# Altium integrated library TI Power Management PCMCIA and USB.IntLib: 328 symbols (part 4 of 14)
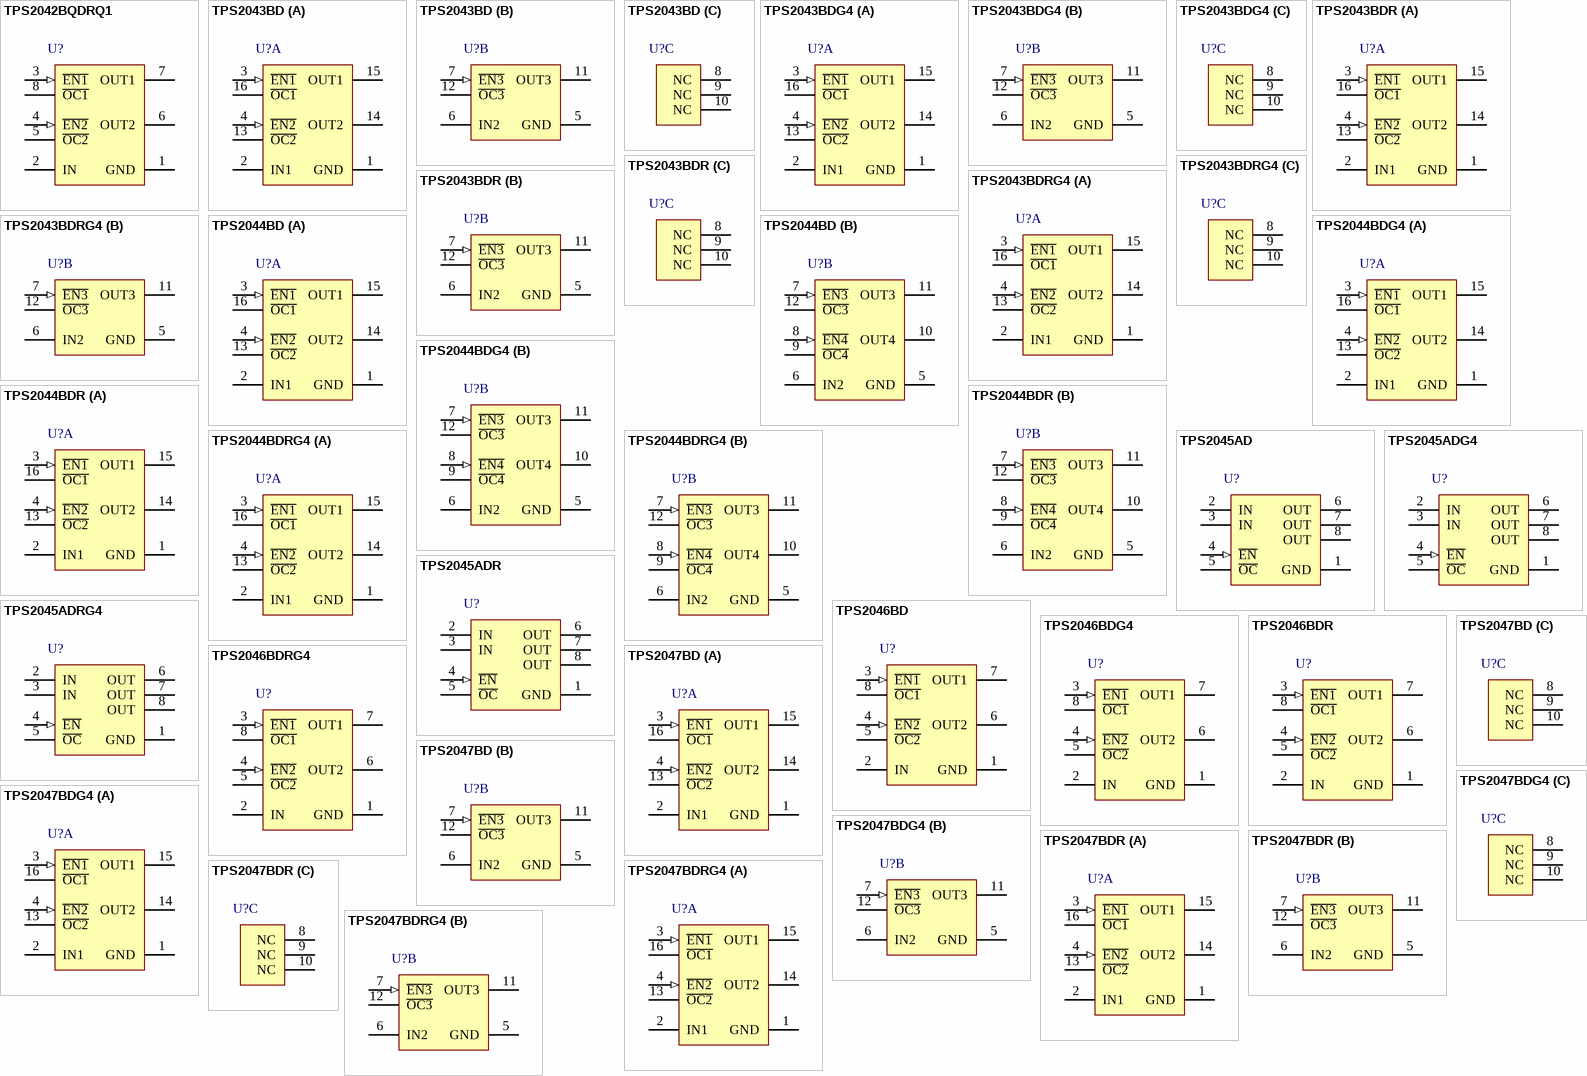
[diagram p13: symbols TPS2042BQDRQ1 to TPS2047BDRG4]

## TPS2044BDR
designator U?
Quad Current-Limited Power Distribution Switch, 1 A Current Limit, -40 to 85 degC, 16-pin SOIC (D), Green (RoHS & no Sb/Br); Manufacturer: Texas Instruments; PartNumber: TPS2044BDR; Continuous Current(Max)(A): 0.5; Current Limit(A): 1; Enable: Active Low; NEMKO: TRUE; Number of Switches: 4; Rating: Catalog; rDS(on) per FET(Typ)(mOhms): 70; Vin(Max)(V): 5.5; Vin(Min)(V): 2.7; DatasheetVersion: SLVS514L; PackageVersion: revM, Jun-2011; PackageReference: D16; PackageDescription: 16-Pin Plastic Small Outline Integrated Circuit, 9.9 x 3.9 mm, Pitch 1.27 mm Pitch; Supplier 1: Digi-Key; Supplier Part Number 1: 296-26909-2-ND; Supplier 2: Digi-Key; Supplier Part Number 2: 296-26909-1-ND; Supplier 3: Digi-Key; Supplier Part Number 3: 296-26909-6-ND; Supplier 4: Newark; Supplier Part Number 4: 90H4834; Supplier 5: Mouser; Supplier Part Number 5: 595-TPS2044BDR; Eco-Plan: Green (RoHS & no Sb/Br); UL Listed: TRUE; Mounting Technology: Surface Mount; Code_JEDEC: MS-012AC; ComponentLink1Description: Datasheet; ComponentLink1URL: http://www.ti.com/general/docs/lit/getliterature.tsp?genericPartNumber=TPS2044B&fileType=pdf
footprint D16_N (SOIC, 16-Leads, Body 9.9x3.9mm, Pitch 1.27mm, IPC Medium Density)
footprint D16_L (SOIC, 16-Leads, Body 9.9x3.9mm, Pitch 1.27mm, IPC High Density)
footprint D16_M (SOIC, 16-Leads, Body 9.9x3.9mm, Pitch 1.27mm, IPC Low Density)
part A pins: 1 GND (power) "Ground", 2 IN1 (power) "Input voltage for OUT1 and OUT2", 3 ~{EN1} (in) "Enable input, logic high turns on power switch IN1-OUT1", 4 ~{EN2} (in) "Enable input, logic high turns on power switch IN1-OUT2", 13 ~{OC2} (oc) "Overcurrent, open-drain output, active low, IN1-OUT2", 14 OUT2 (power) "Power-switch output, IN1-OUT2", 15 OUT1 (power) "Power-switch output, IN1-OUT1", 16 ~{OC1} (oc) "Overcurrent, open-drain output, active low, IN1-OUT1"
part B pins: 5 GND (power) "Ground", 6 IN2 (power) "Input voltage for OUT3", 7 ~{EN3} (in) "Enable input, logic high turns on power switch IN2-OUT3", 8 ~{EN4} (in) "Enable input, logic low turns on power switch IN2-OUT4", 9 ~{OC4} (oc) "Overcurrent, open-drain output, active low, IN2-OUT4", 10 OUT4 (power) "Power-switch output, IN2-OUT4", 11 OUT3 (power) "Power-switch output, IN2-OUT3", 12 ~{OC3} (oc) "Overcurrent, open-drain output, active low, IN2-OUT3"

## TPS2044BDRG4
designator U?
Quad Current-Limited Power Distribution Switch, 1 A Current Limit, -40 to 85 degC, 16-pin SOIC (D), Green (RoHS & no Sb/Br); Manufacturer: Texas Instruments; PartNumber: TPS2044BDRG4; Continuous Current(Max)(A): 0.5; Current Limit(A): 1; Enable: Active Low; NEMKO: TRUE; Number of Switches: 4; Rating: Catalog; rDS(on) per FET(Typ)(mOhms): 70; Vin(Max)(V): 5.5; Vin(Min)(V): 2.7; DatasheetVersion: SLVS514L; PackageVersion: revM, Jun-2011; PackageReference: D16; PackageDescription: 16-Pin Plastic Small Outline Integrated Circuit, 9.9 x 3.9 mm, Pitch 1.27 mm Pitch; Supplier 1: Digi-Key; Supplier Part Number 1: TPS2044BDRG4-ND; Supplier 2: Newark; Supplier Part Number 2: 54K1539; Supplier 3: Mouser; Supplier Part Number 3: 595-TPS2044BDRG4; Eco-Plan: Green (RoHS & no Sb/Br); UL Listed: TRUE; Mounting Technology: Surface Mount; Code_JEDEC: MS-012AC; ComponentLink1Description: Datasheet; ComponentLink1URL: http://www.ti.com/general/docs/lit/getliterature.tsp?genericPartNumber=TPS2044B&fileType=pdf
footprint D16_N (SOIC, 16-Leads, Body 9.9x3.9mm, Pitch 1.27mm, IPC Medium Density)
footprint D16_L (SOIC, 16-Leads, Body 9.9x3.9mm, Pitch 1.27mm, IPC High Density)
footprint D16_M (SOIC, 16-Leads, Body 9.9x3.9mm, Pitch 1.27mm, IPC Low Density)
part A pins: 1 GND (power) "Ground", 2 IN1 (power) "Input voltage for OUT1 and OUT2", 3 ~{EN1} (in) "Enable input, logic high turns on power switch IN1-OUT1", 4 ~{EN2} (in) "Enable input, logic high turns on power switch IN1-OUT2", 13 ~{OC2} (oc) "Overcurrent, open-drain output, active low, IN1-OUT2", 14 OUT2 (power) "Power-switch output, IN1-OUT2", 15 OUT1 (power) "Power-switch output, IN1-OUT1", 16 ~{OC1} (oc) "Overcurrent, open-drain output, active low, IN1-OUT1"
part B pins: 5 GND (power) "Ground", 6 IN2 (power) "Input voltage for OUT3", 7 ~{EN3} (in) "Enable input, logic high turns on power switch IN2-OUT3", 8 ~{EN4} (in) "Enable input, logic low turns on power switch IN2-OUT4", 9 ~{OC4} (oc) "Overcurrent, open-drain output, active low, IN2-OUT4", 10 OUT4 (power) "Power-switch output, IN2-OUT4", 11 OUT3 (power) "Power-switch output, IN2-OUT3", 12 ~{OC3} (oc) "Overcurrent, open-drain output, active low, IN2-OUT3"

## TPS2045AD
designator U?
0.345 A, 2.7 to 5.5 V Single Hi-Side MOSFET, Fault Report, Act-Low Enable, 0.5 A Current Limit, 0 to 85 degC, 8-pin SOIC (D), Green (RoHS & no Sb/Br); Manufacturer: Texas Instruments; PartNumber: TPS2045AD; Continuous Current(Max)(A): 0.25; Current Limit(A): 0.5; Enable: Active Low; NEMKO: TRUE; Number of Switches: 1; Rating: Catalog; rDS(on) per FET(Typ)(mOhms): 80; Vin(Max)(V): 5.5; Vin(Min)(V): 2.7; DatasheetVersion: SLVS251C; PackageVersion: revM, Jun-2011; PackageReference: D8; PackageDescription: 8-Pin Plastic Small Outline Integrated Circuit, 4.9 x 3.9 mm, Pitch 1.27 mm Pitch; Supplier 1: Digi-Key; Supplier Part Number 1: 296-3400-5-ND; Supplier 2: Newark; Supplier Part Number 2: 76C9982; Supplier 3: Mouser; Supplier Part Number 3: 595-TPS2045AD; Eco-Plan: Green (RoHS & no Sb/Br); UL Listed: TRUE; Mounting Technology: Surface Mount; Code_JEDEC: MS-012AA; ComponentLink1Description: Datasheet; ComponentLink1URL: http://www.ti.com/general/docs/lit/getliterature.tsp?genericPartNumber=TPS2045A&fileType=pdf
footprint D8_N (SOIC, 8-Leads, Body 4.9x3.9mm, Pitch 1.27mm, IPC Medium Density)
footprint D8_L (SOIC, 8-Leads, Body 4.9x3.9mm, Pitch 1.27mm, IPC High Density)
footprint D8_M (SOIC, 8-Leads, Body 4.9x3.9mm, Pitch 1.27mm, IPC Low Density)
pins: 1 GND (power) "Ground", 2 IN (power) "Input voltage", 3 IN (power) "Input voltage", 4 ~{EN} (in) "Enable input. Logic low turns on power switch.", 5 ~{OC} (oc) "Overcurrent. Open drain output active low", 6 OUT (power) "Power-switch output", 7 OUT (power) "Power-switch output", 8 OUT (power) "Power-switch output"

## TPS2045ADG4
designator U?
0.345 A, 2.7 to 5.5 V Single Hi-Side MOSFET, Fault Report, Act-Low Enable, 0.5 A Current Limit, 0 to 85 degC, 8-pin SOIC (D), Green (RoHS & no Sb/Br); Manufacturer: Texas Instruments; PartNumber: TPS2045ADG4; Continuous Current(Max)(A): 0.25; Current Limit(A): 0.5; Enable: Active Low; NEMKO: TRUE; Number of Switches: 1; Rating: Catalog; rDS(on) per FET(Typ)(mOhms): 80; Vin(Max)(V): 5.5; Vin(Min)(V): 2.7; DatasheetVersion: SLVS251C; PackageVersion: revM, Jun-2011; PackageReference: D8; PackageDescription: 8-Pin Plastic Small Outline Integrated Circuit, 4.9 x 3.9 mm, Pitch 1.27 mm Pitch; Supplier 1: Digi-Key; Supplier Part Number 1: TPS2045ADG4-ND; Supplier 2: Newark; Supplier Part Number 2: 04M0245; Supplier 3: Mouser; Supplier Part Number 3: 595-TPS2045ADG4; Eco-Plan: Green (RoHS & no Sb/Br); UL Listed: TRUE; Mounting Technology: Surface Mount; Code_JEDEC: MS-012AA; ComponentLink1Description: Datasheet; ComponentLink1URL: http://www.ti.com/general/docs/lit/getliterature.tsp?genericPartNumber=TPS2045A&fileType=pdf
footprint D8_N (SOIC, 8-Leads, Body 4.9x3.9mm, Pitch 1.27mm, IPC Medium Density)
footprint D8_L (SOIC, 8-Leads, Body 4.9x3.9mm, Pitch 1.27mm, IPC High Density)
footprint D8_M (SOIC, 8-Leads, Body 4.9x3.9mm, Pitch 1.27mm, IPC Low Density)
pins: 1 GND (power) "Ground", 2 IN (power) "Input voltage", 3 IN (power) "Input voltage", 4 ~{EN} (in) "Enable input. Logic low turns on power switch.", 5 ~{OC} (oc) "Overcurrent. Open drain output active low", 6 OUT (power) "Power-switch output", 7 OUT (power) "Power-switch output", 8 OUT (power) "Power-switch output"

## TPS2045ADR
designator U?
0.345 A, 2.7 to 5.5 V Single Hi-Side MOSFET, Fault Report, Act-Low Enable, 0.5 A Current Limit, 0 to 85 degC, 8-pin SOIC (D), Green (RoHS & no Sb/Br); Manufacturer: Texas Instruments; PartNumber: TPS2045ADR; Continuous Current(Max)(A): 0.25; Current Limit(A): 0.5; Enable: Active Low; NEMKO: TRUE; Number of Switches: 1; Rating: Catalog; rDS(on) per FET(Typ)(mOhms): 80; Vin(Max)(V): 5.5; Vin(Min)(V): 2.7; DatasheetVersion: SLVS251C; PackageVersion: revM, Jun-2011; PackageReference: D8; PackageDescription: 8-Pin Plastic Small Outline Integrated Circuit, 4.9 x 3.9 mm, Pitch 1.27 mm Pitch; Supplier 1: Digi-Key; Supplier Part Number 1: TPS2045ADR-ND; Supplier 2: Newark; Supplier Part Number 2: 76C9983; Supplier 3: Mouser; Supplier Part Number 3: 595-TPS2045ADR; Eco-Plan: Green (RoHS & no Sb/Br); UL Listed: TRUE; Mounting Technology: Surface Mount; Code_JEDEC: MS-012AA; ComponentLink1Description: Datasheet; ComponentLink1URL: http://www.ti.com/general/docs/lit/getliterature.tsp?genericPartNumber=TPS2045A&fileType=pdf
footprint D8_N (SOIC, 8-Leads, Body 4.9x3.9mm, Pitch 1.27mm, IPC Medium Density)
footprint D8_L (SOIC, 8-Leads, Body 4.9x3.9mm, Pitch 1.27mm, IPC High Density)
footprint D8_M (SOIC, 8-Leads, Body 4.9x3.9mm, Pitch 1.27mm, IPC Low Density)
pins: 1 GND (power) "Ground", 2 IN (power) "Input voltage", 3 IN (power) "Input voltage", 4 ~{EN} (in) "Enable input. Logic low turns on power switch.", 5 ~{OC} (oc) "Overcurrent. Open drain output active low", 6 OUT (power) "Power-switch output", 7 OUT (power) "Power-switch output", 8 OUT (power) "Power-switch output"

## TPS2045ADRG4
designator U?
0.345 A, 2.7 to 5.5 V Single Hi-Side MOSFET, Fault Report, Act-Low Enable, 0.5 A Current Limit, 0 to 85 degC, 8-pin SOIC (D), Green (RoHS & no Sb/Br); Manufacturer: Texas Instruments; PartNumber: TPS2045ADRG4; Continuous Current(Max)(A): 0.25; Current Limit(A): 0.5; Enable: Active Low; NEMKO: TRUE; Number of Switches: 1; Rating: Catalog; rDS(on) per FET(Typ)(mOhms): 80; Vin(Max)(V): 5.5; Vin(Min)(V): 2.7; DatasheetVersion: SLVS251C; PackageVersion: revM, Jun-2011; PackageReference: D8; PackageDescription: 8-Pin Plastic Small Outline Integrated Circuit, 4.9 x 3.9 mm, Pitch 1.27 mm Pitch; Supplier 1: Digi-Key; Supplier Part Number 1: TPS2045ADRG4-ND; Supplier 2: Newark; Supplier Part Number 2: 71J8064; Supplier 3: Mouser; Supplier Part Number 3: 595-TPS2045ADRG4; Eco-Plan: Green (RoHS & no Sb/Br); UL Listed: TRUE; Mounting Technology: Surface Mount; Code_JEDEC: MS-012AA; ComponentLink1Description: Datasheet; ComponentLink1URL: http://www.ti.com/general/docs/lit/getliterature.tsp?genericPartNumber=TPS2045A&fileType=pdf
footprint D8_N (SOIC, 8-Leads, Body 4.9x3.9mm, Pitch 1.27mm, IPC Medium Density)
footprint D8_L (SOIC, 8-Leads, Body 4.9x3.9mm, Pitch 1.27mm, IPC High Density)
footprint D8_M (SOIC, 8-Leads, Body 4.9x3.9mm, Pitch 1.27mm, IPC Low Density)
pins: 1 GND (power) "Ground", 2 IN (power) "Input voltage", 3 IN (power) "Input voltage", 4 ~{EN} (in) "Enable input. Logic low turns on power switch.", 5 ~{OC} (oc) "Overcurrent. Open drain output active low", 6 OUT (power) "Power-switch output", 7 OUT (power) "Power-switch output", 8 OUT (power) "Power-switch output"

## TPS2046BD
designator U?
Current-Limited Power-Distribution Switch, 0.5 A Current Limit, -40 to 85 degC, 8-pin SOIC (D), Green (RoHS & no Sb/Br); Manufacturer: Texas Instruments; PartNumber: TPS2046BD; Continuous Current(Max)(A): 0.25; Current Limit(A): 0.5; Enable: Active Low; NEMKO: TRUE; Number of Switches: 2; Rating: Catalog; rDS(on) per FET(Typ)(mOhms): 70; Vin(Max)(V): 5.5; Vin(Min)(V): 2.7; DatasheetVersion: SLVS532C; PackageVersion: revM, Jun-2011; PackageReference: D8; PackageDescription: 8-Pin Plastic Small Outline Integrated Circuit, 4.9 x 3.9 mm, Pitch 1.27 mm Pitch; Supplier 1: Digi-Key; Supplier Part Number 1: 296-34584-5-ND; Supplier 2: Newark; Supplier Part Number 2: 21J9181; Supplier 3: Mouser; Supplier Part Number 3: 595-TPS2046BD; Eco-Plan: Green (RoHS & no Sb/Br); UL Listed: TRUE; Mounting Technology: Surface Mount; Code_JEDEC: MS-012AA; ComponentLink1Description: Datasheet; ComponentLink1URL: http://www.ti.com/general/docs/lit/getliterature.tsp?genericPartNumber=TPS2046B&fileType=pdf
footprint D8_N (SOIC, 8-Leads, Body 4.9x3.9mm, Pitch 1.27mm, IPC Medium Density)
footprint D8_L (SOIC, 8-Leads, Body 4.9x3.9mm, Pitch 1.27mm, IPC High Density)
footprint D8_M (SOIC, 8-Leads, Body 4.9x3.9mm, Pitch 1.27mm, IPC Low Density)
pins: 1 GND (power) "Ground", 2 IN (power) "Input voltage", 3 ~{EN1} (in) "Enable input, logic low turns on power switch IN-OUT1", 4 ~{EN2} (in) "Enable input, logic low turns on power switch IN-OUT2", 5 ~{OC2} (oc) "Overcurrent, open-drain output, active low, IN-OUT2", 6 OUT2 (power) "Power-switch output, IN-OUT2", 7 OUT1 (power) "Power-switch output, IN-OUT1", 8 ~{OC1} (oc) "Overcurrent, open-drain output, active low, IN-OUT1"

## TPS2046BDG4
designator U?
Current-Limited Power-Distribution Switch, 0.5 A Current Limit, -40 to 85 degC, 8-pin SOIC (D), Green (RoHS & no Sb/Br); Manufacturer: Texas Instruments; PartNumber: TPS2046BDG4; Continuous Current(Max)(A): 0.25; Current Limit(A): 0.5; Enable: Active Low; NEMKO: TRUE; Number of Switches: 2; Rating: Catalog; rDS(on) per FET(Typ)(mOhms): 70; Vin(Max)(V): 5.5; Vin(Min)(V): 2.7; DatasheetVersion: SLVS532C; PackageVersion: revM, Jun-2011; PackageReference: D8; PackageDescription: 8-Pin Plastic Small Outline Integrated Circuit, 4.9 x 3.9 mm, Pitch 1.27 mm Pitch; Supplier 1: Digi-Key; Supplier Part Number 1: TPS2046BDG4-ND; Supplier 2: Newark; Supplier Part Number 2: 34M0137; Supplier 3: Mouser; Supplier Part Number 3: 595-TPS2046BDG4; Eco-Plan: Green (RoHS & no Sb/Br); UL Listed: TRUE; Mounting Technology: Surface Mount; Code_JEDEC: MS-012AA; ComponentLink1Description: Datasheet; ComponentLink1URL: http://www.ti.com/general/docs/lit/getliterature.tsp?genericPartNumber=TPS2046B&fileType=pdf
footprint D8_N (SOIC, 8-Leads, Body 4.9x3.9mm, Pitch 1.27mm, IPC Medium Density)
footprint D8_L (SOIC, 8-Leads, Body 4.9x3.9mm, Pitch 1.27mm, IPC High Density)
footprint D8_M (SOIC, 8-Leads, Body 4.9x3.9mm, Pitch 1.27mm, IPC Low Density)
pins: 1 GND (power) "Ground", 2 IN (power) "Input voltage", 3 ~{EN1} (in) "Enable input, logic low turns on power switch IN-OUT1", 4 ~{EN2} (in) "Enable input, logic low turns on power switch IN-OUT2", 5 ~{OC2} (oc) "Overcurrent, open-drain output, active low, IN-OUT2", 6 OUT2 (power) "Power-switch output, IN-OUT2", 7 OUT1 (power) "Power-switch output, IN-OUT1", 8 ~{OC1} (oc) "Overcurrent, open-drain output, active low, IN-OUT1"

## TPS2046BDR
designator U?
Current-Limited Power-Distribution Switch, 0.5 A Current Limit, -40 to 85 degC, 8-pin SOIC (D), Green (RoHS & no Sb/Br); Manufacturer: Texas Instruments; PartNumber: TPS2046BDR; Continuous Current(Max)(A): 0.25; Current Limit(A): 0.5; Enable: Active Low; NEMKO: TRUE; Number of Switches: 2; Rating: Catalog; rDS(on) per FET(Typ)(mOhms): 70; Vin(Max)(V): 5.5; Vin(Min)(V): 2.7; DatasheetVersion: SLVS532C; PackageVersion: revM, Jun-2011; PackageReference: D8; PackageDescription: 8-Pin Plastic Small Outline Integrated Circuit, 4.9 x 3.9 mm, Pitch 1.27 mm Pitch; Supplier 1: Digi-Key; Supplier Part Number 1: 296-17246-2-ND; Supplier 2: Digi-Key; Supplier Part Number 2: 296-17246-1-ND; Supplier 3: Digi-Key; Supplier Part Number 3: 296-17246-6-ND; Supplier 4: Newark; Supplier Part Number 4: 21J9182; Supplier 5: Mouser; Supplier Part Number 5: 595-TPS2046BDR; Eco-Plan: Green (RoHS & no Sb/Br); UL Listed: TRUE; Mounting Technology: Surface Mount; Code_JEDEC: MS-012AA; ComponentLink1Description: Datasheet; ComponentLink1URL: http://www.ti.com/general/docs/lit/getliterature.tsp?genericPartNumber=TPS2046B&fileType=pdf
footprint D8_N (SOIC, 8-Leads, Body 4.9x3.9mm, Pitch 1.27mm, IPC Medium Density)
footprint D8_L (SOIC, 8-Leads, Body 4.9x3.9mm, Pitch 1.27mm, IPC High Density)
footprint D8_M (SOIC, 8-Leads, Body 4.9x3.9mm, Pitch 1.27mm, IPC Low Density)
pins: 1 GND (power) "Ground", 2 IN (power) "Input voltage", 3 ~{EN1} (in) "Enable input, logic low turns on power switch IN-OUT1", 4 ~{EN2} (in) "Enable input, logic low turns on power switch IN-OUT2", 5 ~{OC2} (oc) "Overcurrent, open-drain output, active low, IN-OUT2", 6 OUT2 (power) "Power-switch output, IN-OUT2", 7 OUT1 (power) "Power-switch output, IN-OUT1", 8 ~{OC1} (oc) "Overcurrent, open-drain output, active low, IN-OUT1"

## TPS2046BDRG4
designator U?
Current-Limited Power-Distribution Switch, 0.5 A Current Limit, -40 to 85 degC, 8-pin SOIC (D), Green (RoHS & no Sb/Br); Manufacturer: Texas Instruments; PartNumber: TPS2046BDRG4; Continuous Current(Max)(A): 0.25; Current Limit(A): 0.5; Enable: Active Low; NEMKO: TRUE; Number of Switches: 2; Rating: Catalog; rDS(on) per FET(Typ)(mOhms): 70; Vin(Max)(V): 5.5; Vin(Min)(V): 2.7; DatasheetVersion: SLVS532C; PackageVersion: revM, Jun-2011; PackageReference: D8; PackageDescription: 8-Pin Plastic Small Outline Integrated Circuit, 4.9 x 3.9 mm, Pitch 1.27 mm Pitch; Supplier 1: Digi-Key; Supplier Part Number 1: TPS2046BDRG4-ND; Supplier 2: Newark; Supplier Part Number 2: 54K1541; Supplier 3: Mouser; Supplier Part Number 3: 595-TPS2046BDRG4; Eco-Plan: Green (RoHS & no Sb/Br); UL Listed: TRUE; Mounting Technology: Surface Mount; Code_JEDEC: MS-012AA; ComponentLink1Description: Datasheet; ComponentLink1URL: http://www.ti.com/general/docs/lit/getliterature.tsp?genericPartNumber=TPS2046B&fileType=pdf
footprint D8_N (SOIC, 8-Leads, Body 4.9x3.9mm, Pitch 1.27mm, IPC Medium Density)
footprint D8_L (SOIC, 8-Leads, Body 4.9x3.9mm, Pitch 1.27mm, IPC High Density)
footprint D8_M (SOIC, 8-Leads, Body 4.9x3.9mm, Pitch 1.27mm, IPC Low Density)
pins: 1 GND (power) "Ground", 2 IN (power) "Input voltage", 3 ~{EN1} (in) "Enable input, logic low turns on power switch IN-OUT1", 4 ~{EN2} (in) "Enable input, logic low turns on power switch IN-OUT2", 5 ~{OC2} (oc) "Overcurrent, open-drain output, active low, IN-OUT2", 6 OUT2 (power) "Power-switch output, IN-OUT2", 7 OUT1 (power) "Power-switch output, IN-OUT1", 8 ~{OC1} (oc) "Overcurrent, open-drain output, active low, IN-OUT1"

## TPS2047BD
designator U?
Current-Limited Power-Distribution Switch, 0.5 A Current Limit, -40 to 85 degC, 16-pin SOIC (D), Green (RoHS & no Sb/Br); Manufacturer: Texas Instruments; PartNumber: TPS2047BD; Continuous Current(Max)(A): 0.25; Current Limit(A): 0.5; Enable: Active Low; NEMKO: TRUE; Number of Switches: 3; Rating: Catalog; rDS(on) per FET(Typ)(mOhms): 70; Vin(Max)(V): 5.5; Vin(Min)(V): 2.7; DatasheetVersion: SLVS532C; PackageVersion: revM, Jun-2011; PackageReference: D16; PackageDescription: 16-Pin Plastic Small Outline Integrated Circuit, 9.9 x 3.9 mm, Pitch 1.27 mm Pitch; Supplier 1: Digi-Key; Supplier Part Number 1: 296-17403-5-ND; Supplier 2: Newark; Supplier Part Number 2: 44J2492; Supplier 3: Mouser; Supplier Part Number 3: 595-TPS2047BD; Eco-Plan: Green (RoHS & no Sb/Br); UL Listed: TRUE; Mounting Technology: Surface Mount; Code_JEDEC: MS-012AC; ComponentLink1Description: Datasheet; ComponentLink1URL: http://www.ti.com/general/docs/lit/getliterature.tsp?genericPartNumber=TPS2047B&fileType=pdf
footprint D16_N (SOIC, 16-Leads, Body 9.9x3.9mm, Pitch 1.27mm, IPC Medium Density)
footprint D16_L (SOIC, 16-Leads, Body 9.9x3.9mm, Pitch 1.27mm, IPC High Density)
footprint D16_M (SOIC, 16-Leads, Body 9.9x3.9mm, Pitch 1.27mm, IPC Low Density)
part A pins: 1 GND (power) "Ground", 2 IN1 (power) "Input voltage for OUT1 and OUT2", 3 ~{EN1} (in) "Enable input, logic low turns on power switch IN1-OUT1", 4 ~{EN2} (in) "Enable input, logic low turns on power switch IN1-OUT2", 13 ~{OC2} (oc) "Overcurrent, open-drain output, active low, IN1-OUT2", 14 OUT2 (power) "Power-switch output, IN1-OUT2", 15 OUT1 (power) "Power-switch output, IN1-OUT1", 16 ~{OC1} (oc) "Overcurrent, open-drain output, active low, IN1-OUT1"
part B pins: 5 GND (power) "Ground", 6 IN2 (power) "Input voltage for OUT3", 7 ~{EN3} (in) "Enable input, logic low turns on power switch IN2-OUT3", 11 OUT3 (power) "Power-switch output, IN2-OUT3", 12 ~{OC3} (oc) "Overcurrent, open-drain output, active low, IN2-OUT3"
part C pins: 8 NC "No connection", 9 NC "No connection", 10 NC "No connection"

## TPS2047BDG4
designator U?
Current-Limited Power-Distribution Switch, 0.5 A Current Limit, -40 to 85 degC, 16-pin SOIC (D), Green (RoHS & no Sb/Br); Manufacturer: Texas Instruments; PartNumber: TPS2047BDG4; Continuous Current(Max)(A): 0.25; Current Limit(A): 0.5; Enable: Active Low; NEMKO: TRUE; Number of Switches: 3; Rating: Catalog; rDS(on) per FET(Typ)(mOhms): 70; Vin(Max)(V): 5.5; Vin(Min)(V): 2.7; DatasheetVersion: SLVS532C; PackageVersion: revM, Jun-2011; PackageReference: D16; PackageDescription: 16-Pin Plastic Small Outline Integrated Circuit, 9.9 x 3.9 mm, Pitch 1.27 mm Pitch; Supplier 1: Digi-Key; Supplier Part Number 1: TPS2047BDG4-ND; Supplier 2: Newark; Supplier Part Number 2: 73K9582; Supplier 3: Mouser; Supplier Part Number 3: 595-TPS2047BDG4; Eco-Plan: Green (RoHS & no Sb/Br); UL Listed: TRUE; Mounting Technology: Surface Mount; Code_JEDEC: MS-012AC; ComponentLink1Description: Datasheet; ComponentLink1URL: http://www.ti.com/general/docs/lit/getliterature.tsp?genericPartNumber=TPS2047B&fileType=pdf
footprint D16_N (SOIC, 16-Leads, Body 9.9x3.9mm, Pitch 1.27mm, IPC Medium Density)
footprint D16_L (SOIC, 16-Leads, Body 9.9x3.9mm, Pitch 1.27mm, IPC High Density)
footprint D16_M (SOIC, 16-Leads, Body 9.9x3.9mm, Pitch 1.27mm, IPC Low Density)
part A pins: 1 GND (power) "Ground", 2 IN1 (power) "Input voltage for OUT1 and OUT2", 3 ~{EN1} (in) "Enable input, logic low turns on power switch IN1-OUT1", 4 ~{EN2} (in) "Enable input, logic low turns on power switch IN1-OUT2", 13 ~{OC2} (oc) "Overcurrent, open-drain output, active low, IN1-OUT2", 14 OUT2 (power) "Power-switch output, IN1-OUT2", 15 OUT1 (power) "Power-switch output, IN1-OUT1", 16 ~{OC1} (oc) "Overcurrent, open-drain output, active low, IN1-OUT1"
part B pins: 5 GND (power) "Ground", 6 IN2 (power) "Input voltage for OUT3", 7 ~{EN3} (in) "Enable input, logic low turns on power switch IN2-OUT3", 11 OUT3 (power) "Power-switch output, IN2-OUT3", 12 ~{OC3} (oc) "Overcurrent, open-drain output, active low, IN2-OUT3"
part C pins: 8 NC "No connection", 9 NC "No connection", 10 NC "No connection"

## TPS2047BDR
designator U?
Current-Limited Power-Distribution Switch, 0.5 A Current Limit, -40 to 85 degC, 16-pin SOIC (D), Green (RoHS & no Sb/Br); Manufacturer: Texas Instruments; PartNumber: TPS2047BDR; Continuous Current(Max)(A): 0.25; Current Limit(A): 0.5; Enable: Active Low; NEMKO: TRUE; Number of Switches: 3; Rating: Catalog; rDS(on) per FET(Typ)(mOhms): 70; Vin(Max)(V): 5.5; Vin(Min)(V): 2.7; DatasheetVersion: SLVS532C; PackageVersion: revM, Jun-2011; PackageReference: D16; PackageDescription: 16-Pin Plastic Small Outline Integrated Circuit, 9.9 x 3.9 mm, Pitch 1.27 mm Pitch; Supplier 1: Digi-Key; Supplier Part Number 1: TPS2047BDR-ND; Supplier 2: Newark; Supplier Part Number 2: 44J2493; Supplier 3: Mouser; Supplier Part Number 3: 595-TPS2047BDR; Eco-Plan: Green (RoHS & no Sb/Br); UL Listed: TRUE; Mounting Technology: Surface Mount; Code_JEDEC: MS-012AC; ComponentLink1Description: Datasheet; ComponentLink1URL: http://www.ti.com/general/docs/lit/getliterature.tsp?genericPartNumber=TPS2047B&fileType=pdf
footprint D16_N (SOIC, 16-Leads, Body 9.9x3.9mm, Pitch 1.27mm, IPC Medium Density)
footprint D16_L (SOIC, 16-Leads, Body 9.9x3.9mm, Pitch 1.27mm, IPC High Density)
footprint D16_M (SOIC, 16-Leads, Body 9.9x3.9mm, Pitch 1.27mm, IPC Low Density)
part A pins: 1 GND (power) "Ground", 2 IN1 (power) "Input voltage for OUT1 and OUT2", 3 ~{EN1} (in) "Enable input, logic low turns on power switch IN1-OUT1", 4 ~{EN2} (in) "Enable input, logic low turns on power switch IN1-OUT2", 13 ~{OC2} (oc) "Overcurrent, open-drain output, active low, IN1-OUT2", 14 OUT2 (power) "Power-switch output, IN1-OUT2", 15 OUT1 (power) "Power-switch output, IN1-OUT1", 16 ~{OC1} (oc) "Overcurrent, open-drain output, active low, IN1-OUT1"
part B pins: 5 GND (power) "Ground", 6 IN2 (power) "Input voltage for OUT3", 7 ~{EN3} (in) "Enable input, logic low turns on power switch IN2-OUT3", 11 OUT3 (power) "Power-switch output, IN2-OUT3", 12 ~{OC3} (oc) "Overcurrent, open-drain output, active low, IN2-OUT3"
part C pins: 8 NC "No connection", 9 NC "No connection", 10 NC "No connection"

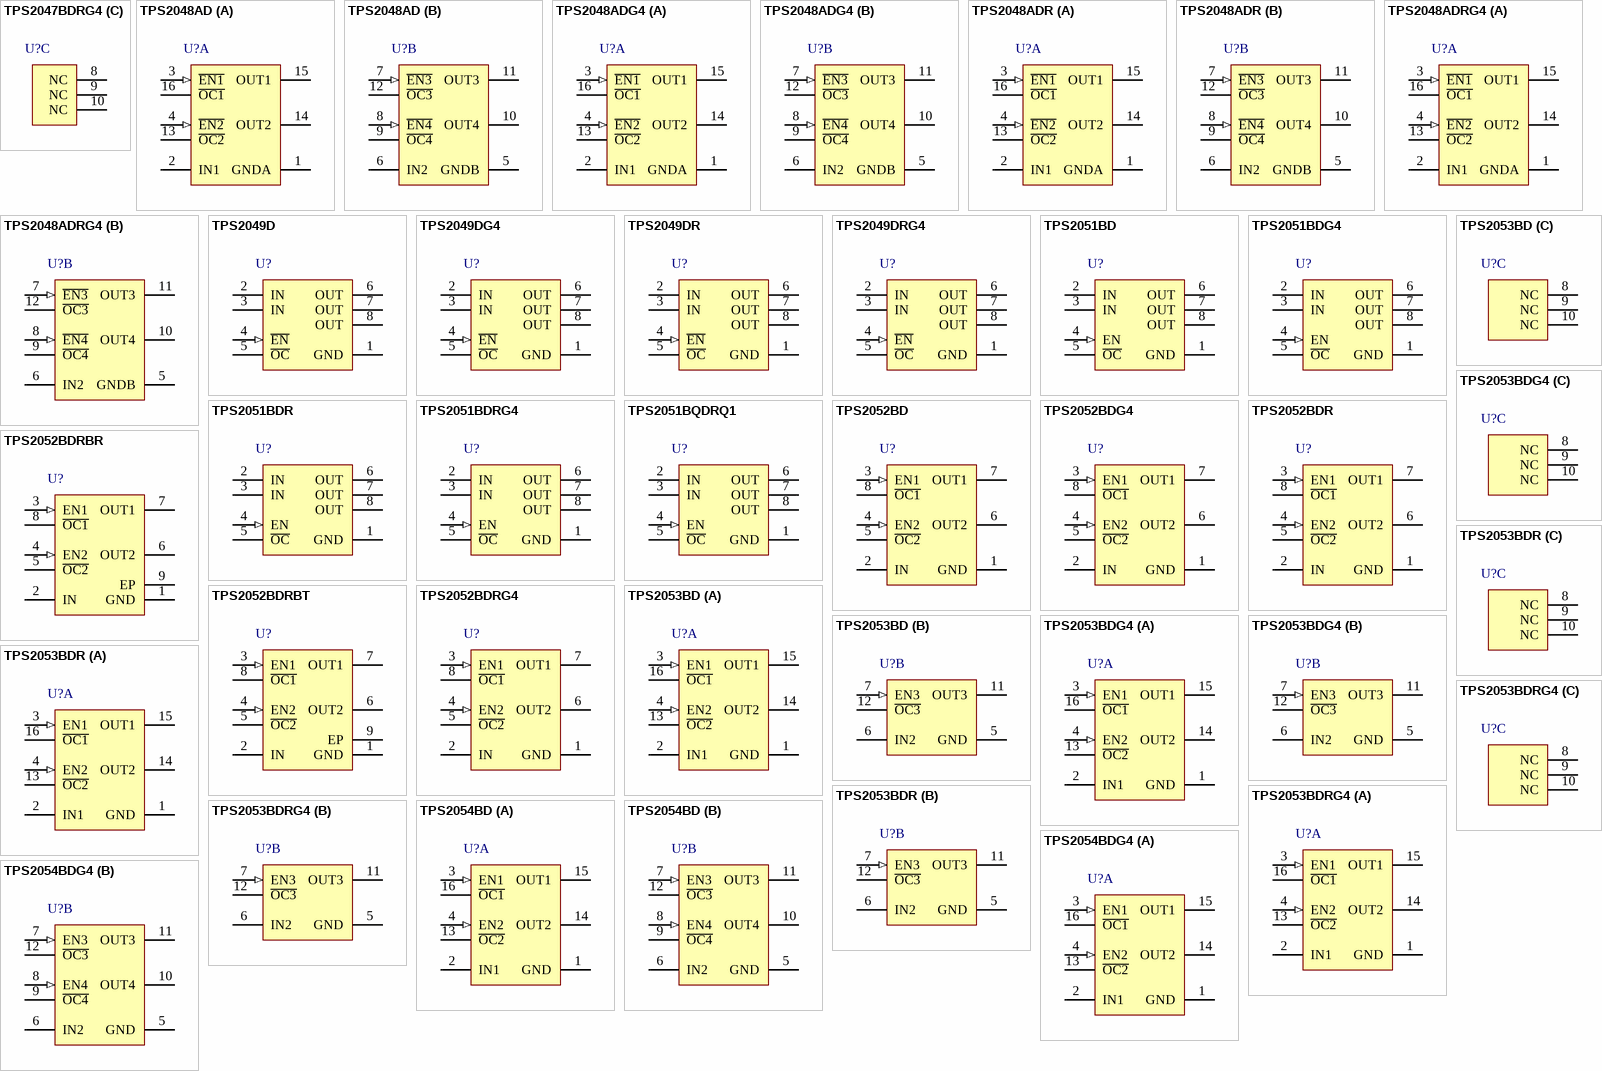
[diagram p3: symbols TPS2047BDRG4 to TPS2054BDG4]

## TPS2047BDRG4
designator U?
Current-Limited Power-Distribution Switch, 0.5 A Current Limit, -40 to 85 degC, 16-pin SOIC (D), Green (RoHS & no Sb/Br); Manufacturer: Texas Instruments; PartNumber: TPS2047BDRG4; Continuous Current(Max)(A): 0.25; Current Limit(A): 0.5; Enable: Active Low; NEMKO: TRUE; Number of Switches: 3; Rating: Catalog; rDS(on) per FET(Typ)(mOhms): 70; Vin(Max)(V): 5.5; Vin(Min)(V): 2.7; DatasheetVersion: SLVS532C; PackageVersion: revM, Jun-2011; PackageReference: D16; PackageDescription: 16-Pin Plastic Small Outline Integrated Circuit, 9.9 x 3.9 mm, Pitch 1.27 mm Pitch; Supplier 1: Digi-Key; Supplier Part Number 1: TPS2047BDRG4-ND; Supplier 2: Newark; Supplier Part Number 2: 70K5696; Supplier 3: Mouser; Supplier Part Number 3: 595-TPS2047BDRG4; Eco-Plan: Green (RoHS & no Sb/Br); UL Listed: TRUE; Mounting Technology: Surface Mount; Code_JEDEC: MS-012AC; ComponentLink1Description: Datasheet; ComponentLink1URL: http://www.ti.com/general/docs/lit/getliterature.tsp?genericPartNumber=TPS2047B&fileType=pdf
footprint D16_N (SOIC, 16-Leads, Body 9.9x3.9mm, Pitch 1.27mm, IPC Medium Density)
footprint D16_L (SOIC, 16-Leads, Body 9.9x3.9mm, Pitch 1.27mm, IPC High Density)
footprint D16_M (SOIC, 16-Leads, Body 9.9x3.9mm, Pitch 1.27mm, IPC Low Density)
part A pins: 1 GND (power) "Ground", 2 IN1 (power) "Input voltage for OUT1 and OUT2", 3 ~{EN1} (in) "Enable input, logic low turns on power switch IN1-OUT1", 4 ~{EN2} (in) "Enable input, logic low turns on power switch IN1-OUT2", 13 ~{OC2} (oc) "Overcurrent, open-drain output, active low, IN1-OUT2", 14 OUT2 (power) "Power-switch output, IN1-OUT2", 15 OUT1 (power) "Power-switch output, IN1-OUT1", 16 ~{OC1} (oc) "Overcurrent, open-drain output, active low, IN1-OUT1"
part B pins: 5 GND (power) "Ground", 6 IN2 (power) "Input voltage for OUT3", 7 ~{EN3} (in) "Enable input, logic low turns on power switch IN2-OUT3", 11 OUT3 (power) "Power-switch output, IN2-OUT3", 12 ~{OC3} (oc) "Overcurrent, open-drain output, active low, IN2-OUT3"
part C pins: 8 NC "No connection", 9 NC "No connection", 10 NC "No connection"

## TPS2048AD
designator U?
0.345 A, 2.7 to 5.5 V Quad (2 In / 4 Out) Hi-Side MOSFET, Fault Report, Act-Low Enable, 0.5 A Current Limit, 0 to 85 degC, 16-pin SOIC (D), Green (RoHS & no Sb/Br); Manufacturer: Texas Instruments; PartNumber: TPS2048AD; Continuous Current(Max)(A): 0.25; Current Limit(A): 0.5; Enable: Active Low; NEMKO: TRUE; Number of Switches: 4; Rating: Catalog; rDS(on) per FET(Typ)(mOhms): 80; Vin(Max)(V): 5.5; Vin(Min)(V): 2.7; DatasheetVersion: SLVS251C; PackageVersion: revM, Jun-2011; PackageReference: D16; PackageDescription: 16-Pin Plastic Small Outline Integrated Circuit, 9.9 x 3.9 mm, Pitch 1.27 mm Pitch; Supplier 1: Digi-Key; Supplier Part Number 1: 296-3408-5-ND; Supplier 2: Newark; Supplier Part Number 2: 76C9996; Supplier 3: Mouser; Supplier Part Number 3: 595-TPS2048AD; Eco-Plan: Green (RoHS & no Sb/Br); UL Listed: TRUE; Mounting Technology: Surface Mount; Code_JEDEC: MS-012AC; ComponentLink1Description: Datasheet; ComponentLink1URL: http://www.ti.com/general/docs/lit/getliterature.tsp?genericPartNumber=TPS2048A&fileType=pdf
footprint D16_N (SOIC, 16-Leads, Body 9.9x3.9mm, Pitch 1.27mm, IPC Medium Density)
footprint D16_L (SOIC, 16-Leads, Body 9.9x3.9mm, Pitch 1.27mm, IPC High Density)
footprint D16_M (SOIC, 16-Leads, Body 9.9x3.9mm, Pitch 1.27mm, IPC Low Density)
part A pins: 1 GNDA (power) "Ground for IN1 switch and circuitry.", 2 IN1 (power) "Input voltage", 3 ~{EN1} (in) "Enable input. logic low turns on power switch, IN1-OUT1.", 4 ~{EN2} (in) "Enable input. Logic low turns on power switch, IN1-OUT2.", 13 ~{OC2} (oc) "Overcurrent. Open drain output active low, IN1-OUT2", 14 OUT2 (power) "Power-switch output, IN1-OUT2", 15 OUT1 (power) "Power-switch output, IN1-OUT1", 16 ~{OC1} (oc) "Overcurrent. Open drain output active low, IN1-OUT1"
part B pins: 5 GNDB (power) "Ground for IN2 switch and circuitry.", 6 IN2 (power) "Input voltage", 7 ~{EN3} (in) "Enable input. Logic low turns on power switch, IN2-OUT3.", 8 ~{EN4} (in) "Enable input. Logic low turns on power switch, IN2-OUT4.", 9 ~{OC4} (oc) "Overcurrent. Open drain output active low, IN2-OUT4", 10 OUT4 (power) "Power-switch output, IN2-OUT4", 11 OUT3 (power) "Power-switch output, IN2-OUT3", 12 ~{OC3} (oc) "Overcurrent. Open drain output active low, IN2-OUT3"

## TPS2048ADG4
designator U?
0.345 A, 2.7 to 5.5 V Quad (2 In / 4 Out) Hi-Side MOSFET, Fault Report, Act-Low Enable, 0.5 A Current Limit, 0 to 85 degC, 16-pin SOIC (D), Green (RoHS & no Sb/Br); Manufacturer: Texas Instruments; PartNumber: TPS2048ADG4; Continuous Current(Max)(A): 0.25; Current Limit(A): 0.5; Enable: Active Low; NEMKO: TRUE; Number of Switches: 4; Rating: Catalog; rDS(on) per FET(Typ)(mOhms): 80; Vin(Max)(V): 5.5; Vin(Min)(V): 2.7; DatasheetVersion: SLVS251C; PackageVersion: revM, Jun-2011; PackageReference: D16; PackageDescription: 16-Pin Plastic Small Outline Integrated Circuit, 9.9 x 3.9 mm, Pitch 1.27 mm Pitch; Supplier 1: Digi-Key; Supplier Part Number 1: TPS2048ADG4-ND; Supplier 2: Newark; Supplier Part Number 2: 33K7518; Supplier 3: Mouser; Supplier Part Number 3: 595-TPS2048ADG4; Eco-Plan: Green (RoHS & no Sb/Br); UL Listed: TRUE; Mounting Technology: Surface Mount; Code_JEDEC: MS-012AC; ComponentLink1Description: Datasheet; ComponentLink1URL: http://www.ti.com/general/docs/lit/getliterature.tsp?genericPartNumber=TPS2048A&fileType=pdf
footprint D16_N (SOIC, 16-Leads, Body 9.9x3.9mm, Pitch 1.27mm, IPC Medium Density)
footprint D16_L (SOIC, 16-Leads, Body 9.9x3.9mm, Pitch 1.27mm, IPC High Density)
footprint D16_M (SOIC, 16-Leads, Body 9.9x3.9mm, Pitch 1.27mm, IPC Low Density)
part A pins: 1 GNDA (power) "Ground for IN1 switch and circuitry.", 2 IN1 (power) "Input voltage", 3 ~{EN1} (in) "Enable input. logic low turns on power switch, IN1-OUT1.", 4 ~{EN2} (in) "Enable input. Logic low turns on power switch, IN1-OUT2.", 13 ~{OC2} (oc) "Overcurrent. Open drain output active low, IN1-OUT2", 14 OUT2 (power) "Power-switch output, IN1-OUT2", 15 OUT1 (power) "Power-switch output, IN1-OUT1", 16 ~{OC1} (oc) "Overcurrent. Open drain output active low, IN1-OUT1"
part B pins: 5 GNDB (power) "Ground for IN2 switch and circuitry.", 6 IN2 (power) "Input voltage", 7 ~{EN3} (in) "Enable input. Logic low turns on power switch, IN2-OUT3.", 8 ~{EN4} (in) "Enable input. Logic low turns on power switch, IN2-OUT4.", 9 ~{OC4} (oc) "Overcurrent. Open drain output active low, IN2-OUT4", 10 OUT4 (power) "Power-switch output, IN2-OUT4", 11 OUT3 (power) "Power-switch output, IN2-OUT3", 12 ~{OC3} (oc) "Overcurrent. Open drain output active low, IN2-OUT3"

## TPS2048ADR
designator U?
0.345 A, 2.7 to 5.5 V Quad (2 In / 4 Out) Hi-Side MOSFET, Fault Report, Act-Low Enable, 0.5 A Current Limit, 0 to 85 degC, 16-pin SOIC (D), Green (RoHS & no Sb/Br); Manufacturer: Texas Instruments; PartNumber: TPS2048ADR; Continuous Current(Max)(A): 0.25; Current Limit(A): 0.5; Enable: Active Low; NEMKO: TRUE; Number of Switches: 4; Rating: Catalog; rDS(on) per FET(Typ)(mOhms): 80; Vin(Max)(V): 5.5; Vin(Min)(V): 2.7; DatasheetVersion: SLVS251C; PackageVersion: revM, Jun-2011; PackageReference: D16; PackageDescription: 16-Pin Plastic Small Outline Integrated Circuit, 9.9 x 3.9 mm, Pitch 1.27 mm Pitch; Supplier 1: Digi-Key; Supplier Part Number 1: TPS2048ADR-ND; Supplier 2: Newark; Supplier Part Number 2: 76C9997; Supplier 3: Mouser; Supplier Part Number 3: 595-TPS2048ADR; Eco-Plan: Green (RoHS & no Sb/Br); UL Listed: TRUE; Mounting Technology: Surface Mount; Code_JEDEC: MS-012AC; ComponentLink1Description: Datasheet; ComponentLink1URL: http://www.ti.com/general/docs/lit/getliterature.tsp?genericPartNumber=TPS2048A&fileType=pdf
footprint D16_N (SOIC, 16-Leads, Body 9.9x3.9mm, Pitch 1.27mm, IPC Medium Density)
footprint D16_L (SOIC, 16-Leads, Body 9.9x3.9mm, Pitch 1.27mm, IPC High Density)
footprint D16_M (SOIC, 16-Leads, Body 9.9x3.9mm, Pitch 1.27mm, IPC Low Density)
part A pins: 1 GNDA (power) "Ground for IN1 switch and circuitry.", 2 IN1 (power) "Input voltage", 3 ~{EN1} (in) "Enable input. logic low turns on power switch, IN1-OUT1.", 4 ~{EN2} (in) "Enable input. Logic low turns on power switch, IN1-OUT2.", 13 ~{OC2} (oc) "Overcurrent. Open drain output active low, IN1-OUT2", 14 OUT2 (power) "Power-switch output, IN1-OUT2", 15 OUT1 (power) "Power-switch output, IN1-OUT1", 16 ~{OC1} (oc) "Overcurrent. Open drain output active low, IN1-OUT1"
part B pins: 5 GNDB (power) "Ground for IN2 switch and circuitry.", 6 IN2 (power) "Input voltage", 7 ~{EN3} (in) "Enable input. Logic low turns on power switch, IN2-OUT3.", 8 ~{EN4} (in) "Enable input. Logic low turns on power switch, IN2-OUT4.", 9 ~{OC4} (oc) "Overcurrent. Open drain output active low, IN2-OUT4", 10 OUT4 (power) "Power-switch output, IN2-OUT4", 11 OUT3 (power) "Power-switch output, IN2-OUT3", 12 ~{OC3} (oc) "Overcurrent. Open drain output active low, IN2-OUT3"

## TPS2048ADRG4
designator U?
0.345 A, 2.7 to 5.5 V Quad (2 In / 4 Out) Hi-Side MOSFET, Fault Report, Act-Low Enable, 0.5 A Current Limit, 0 to 85 degC, 16-pin SOIC (D), Green (RoHS & no Sb/Br); Manufacturer: Texas Instruments; PartNumber: TPS2048ADRG4; Continuous Current(Max)(A): 0.25; Current Limit(A): 0.5; Enable: Active Low; NEMKO: TRUE; Number of Switches: 4; Rating: Catalog; rDS(on) per FET(Typ)(mOhms): 80; Vin(Max)(V): 5.5; Vin(Min)(V): 2.7; DatasheetVersion: SLVS251C; PackageVersion: revM, Jun-2011; PackageReference: D16; PackageDescription: 16-Pin Plastic Small Outline Integrated Circuit, 9.9 x 3.9 mm, Pitch 1.27 mm Pitch; Supplier 1: Digi-Key; Supplier Part Number 1: TPS2048ADRG4-ND; Supplier 2: Newark; Supplier Part Number 2: 33K7519; Supplier 3: Mouser; Supplier Part Number 3: 595-TPS2048ADRG4; Eco-Plan: Green (RoHS & no Sb/Br); UL Listed: TRUE; Mounting Technology: Surface Mount; Code_JEDEC: MS-012AC; ComponentLink1Description: Datasheet; ComponentLink1URL: http://www.ti.com/general/docs/lit/getliterature.tsp?genericPartNumber=TPS2048A&fileType=pdf
footprint D16_N (SOIC, 16-Leads, Body 9.9x3.9mm, Pitch 1.27mm, IPC Medium Density)
footprint D16_L (SOIC, 16-Leads, Body 9.9x3.9mm, Pitch 1.27mm, IPC High Density)
footprint D16_M (SOIC, 16-Leads, Body 9.9x3.9mm, Pitch 1.27mm, IPC Low Density)
part A pins: 1 GNDA (power) "Ground for IN1 switch and circuitry.", 2 IN1 (power) "Input voltage", 3 ~{EN1} (in) "Enable input. logic low turns on power switch, IN1-OUT1.", 4 ~{EN2} (in) "Enable input. Logic low turns on power switch, IN1-OUT2.", 13 ~{OC2} (oc) "Overcurrent. Open drain output active low, IN1-OUT2", 14 OUT2 (power) "Power-switch output, IN1-OUT2", 15 OUT1 (power) "Power-switch output, IN1-OUT1", 16 ~{OC1} (oc) "Overcurrent. Open drain output active low, IN1-OUT1"
part B pins: 5 GNDB (power) "Ground for IN2 switch and circuitry.", 6 IN2 (power) "Input voltage", 7 ~{EN3} (in) "Enable input. Logic low turns on power switch, IN2-OUT3.", 8 ~{EN4} (in) "Enable input. Logic low turns on power switch, IN2-OUT4.", 9 ~{OC4} (oc) "Overcurrent. Open drain output active low, IN2-OUT4", 10 OUT4 (power) "Power-switch output, IN2-OUT4", 11 OUT3 (power) "Power-switch output, IN2-OUT3", 12 ~{OC3} (oc) "Overcurrent. Open drain output active low, IN2-OUT3"

## TPS2049D
designator U?
Single-Channel 100 mA Power Switch, 0.45 A Current Limit, -40 to 85 degC, 8-pin SOIC (D), Green (RoHS & no Sb/Br); Manufacturer: Texas Instruments; PartNumber: TPS2049D; Continuous Current(Max)(A): 0.15; Current Limit(A): 0.45; Enable: Active Low; Number of Switches: 1; Rating: Catalog; rDS(on) per FET(Typ)(mOhms): 70; Vin(Max)(V): 5.5; Vin(Min)(V): 2.7; DatasheetVersion: SLVS713A; PackageVersion: revM, Jun-2011; PackageReference: D8; PackageDescription: 8-Pin Plastic Small Outline Integrated Circuit, 4.9 x 3.9 mm, Pitch 1.27 mm Pitch; Supplier 1: Digi-Key; Supplier Part Number 1: 296-21264-5-ND; Supplier 2: Farnell; Supplier Part Number 2: 1533687; Supplier 3: Newark; Supplier Part Number 3: 18M7782; Supplier 4: Mouser; Supplier Part Number 4: 595-TPS2049D; Eco-Plan: Green (RoHS & no Sb/Br); Mounting Technology: Surface Mount; Code_JEDEC: MS-012AA; ComponentLink1Description: Datasheet; ComponentLink1URL: http://www.ti.com/general/docs/lit/getliterature.tsp?genericPartNumber=TPS2049&fileType=pdf
footprint D8_N (SOIC, 8-Leads, Body 4.9x3.9mm, Pitch 1.27mm, IPC Medium Density)
footprint D8_L (SOIC, 8-Leads, Body 4.9x3.9mm, Pitch 1.27mm, IPC High Density)
footprint D8_M (SOIC, 8-Leads, Body 4.9x3.9mm, Pitch 1.27mm, IPC Low Density)
pins: 1 GND (power) "Ground", 2 IN (power) "Input voltage", 3 IN (power) "Input voltage", 4 ~{EN} (in) "Enable input, logic low turns on power switch", 5 ~{OC} (oc) "Overcurrent, report, active-low, open-drain output", 6 OUT (power) "Power-switch output", 7 OUT (power) "Power-switch output", 8 OUT (power) "Power-switch output"

## TPS2049DG4
designator U?
Single-Channel 100 mA Power Switch, 0.45 A Current Limit, -40 to 85 degC, 8-pin SOIC (D), Green (RoHS & no Sb/Br); Manufacturer: Texas Instruments; PartNumber: TPS2049DG4; Continuous Current(Max)(A): 0.15; Current Limit(A): 0.45; Enable: Active Low; Number of Switches: 1; Rating: Catalog; rDS(on) per FET(Typ)(mOhms): 70; Vin(Max)(V): 5.5; Vin(Min)(V): 2.7; DatasheetVersion: SLVS713A; PackageVersion: revM, Jun-2011; PackageReference: D8; PackageDescription: 8-Pin Plastic Small Outline Integrated Circuit, 4.9 x 3.9 mm, Pitch 1.27 mm Pitch; Supplier 1: Digi-Key; Supplier Part Number 1: TPS2049DG4-ND; Supplier 2: Newark; Supplier Part Number 2: 20M5868; Supplier 3: Mouser; Supplier Part Number 3: 595-TPS2049DG4; Eco-Plan: Green (RoHS & no Sb/Br); Mounting Technology: Surface Mount; Code_JEDEC: MS-012AA; ComponentLink1Description: Datasheet; ComponentLink1URL: http://www.ti.com/general/docs/lit/getliterature.tsp?genericPartNumber=TPS2049&fileType=pdf
footprint D8_N (SOIC, 8-Leads, Body 4.9x3.9mm, Pitch 1.27mm, IPC Medium Density)
footprint D8_L (SOIC, 8-Leads, Body 4.9x3.9mm, Pitch 1.27mm, IPC High Density)
footprint D8_M (SOIC, 8-Leads, Body 4.9x3.9mm, Pitch 1.27mm, IPC Low Density)
pins: 1 GND (power) "Ground", 2 IN (power) "Input voltage", 3 IN (power) "Input voltage", 4 ~{EN} (in) "Enable input, logic low turns on power switch", 5 ~{OC} (oc) "Overcurrent, report, active-low, open-drain output", 6 OUT (power) "Power-switch output", 7 OUT (power) "Power-switch output", 8 OUT (power) "Power-switch output"

## TPS2049DR
designator U?
Single-Channel 100 mA Power Switch, 0.45 A Current Limit, -40 to 85 degC, 8-pin SOIC (D), Green (RoHS & no Sb/Br); Manufacturer: Texas Instruments; PartNumber: TPS2049DR; Continuous Current(Max)(A): 0.15; Current Limit(A): 0.45; Enable: Active Low; Number of Switches: 1; Rating: Catalog; rDS(on) per FET(Typ)(mOhms): 70; Vin(Max)(V): 5.5; Vin(Min)(V): 2.7; DatasheetVersion: SLVS713A; PackageVersion: revM, Jun-2011; PackageReference: D8; PackageDescription: 8-Pin Plastic Small Outline Integrated Circuit, 4.9 x 3.9 mm, Pitch 1.27 mm Pitch; Supplier 1: Digi-Key; Supplier Part Number 1: 296-26910-2-ND; Supplier 2: Digi-Key; Supplier Part Number 2: 296-26910-1-ND; Supplier 3: Digi-Key; Supplier Part Number 3: 296-26910-6-ND; Supplier 4: Mouser; Supplier Part Number 4: 595-TPS2049DR; Eco-Plan: Green (RoHS & no Sb/Br); Mounting Technology: Surface Mount; Code_JEDEC: MS-012AA; ComponentLink1Description: Datasheet; ComponentLink1URL: http://www.ti.com/general/docs/lit/getliterature.tsp?genericPartNumber=TPS2049&fileType=pdf
footprint D8_N (SOIC, 8-Leads, Body 4.9x3.9mm, Pitch 1.27mm, IPC Medium Density)
footprint D8_L (SOIC, 8-Leads, Body 4.9x3.9mm, Pitch 1.27mm, IPC High Density)
footprint D8_M (SOIC, 8-Leads, Body 4.9x3.9mm, Pitch 1.27mm, IPC Low Density)
pins: 1 GND (power) "Ground", 2 IN (power) "Input voltage", 3 IN (power) "Input voltage", 4 ~{EN} (in) "Enable input, logic low turns on power switch", 5 ~{OC} (oc) "Overcurrent, report, active-low, open-drain output", 6 OUT (power) "Power-switch output", 7 OUT (power) "Power-switch output", 8 OUT (power) "Power-switch output"

## TPS2049DRG4
designator U?
Single-Channel 100 mA Power Switch, 0.45 A Current Limit, -40 to 85 degC, 8-pin SOIC (D), Green (RoHS & no Sb/Br); Manufacturer: Texas Instruments; PartNumber: TPS2049DRG4; Continuous Current(Max)(A): 0.15; Current Limit(A): 0.45; Enable: Active Low; Number of Switches: 1; Rating: Catalog; rDS(on) per FET(Typ)(mOhms): 70; Vin(Max)(V): 5.5; Vin(Min)(V): 2.7; DatasheetVersion: SLVS713A; PackageVersion: revM, Jun-2011; PackageReference: D8; PackageDescription: 8-Pin Plastic Small Outline Integrated Circuit, 4.9 x 3.9 mm, Pitch 1.27 mm Pitch; Supplier 1: Digi-Key; Supplier Part Number 1: TPS2049DRG4-ND; Supplier 2: Newark; Supplier Part Number 2: 20M5869; Supplier 3: Mouser; Supplier Part Number 3: 595-TPS2049DRG4; Eco-Plan: Green (RoHS & no Sb/Br); Mounting Technology: Surface Mount; Code_JEDEC: MS-012AA; ComponentLink1Description: Datasheet; ComponentLink1URL: http://www.ti.com/general/docs/lit/getliterature.tsp?genericPartNumber=TPS2049&fileType=pdf
footprint D8_N (SOIC, 8-Leads, Body 4.9x3.9mm, Pitch 1.27mm, IPC Medium Density)
footprint D8_L (SOIC, 8-Leads, Body 4.9x3.9mm, Pitch 1.27mm, IPC High Density)
footprint D8_M (SOIC, 8-Leads, Body 4.9x3.9mm, Pitch 1.27mm, IPC Low Density)
pins: 1 GND (power) "Ground", 2 IN (power) "Input voltage", 3 IN (power) "Input voltage", 4 ~{EN} (in) "Enable input, logic low turns on power switch", 5 ~{OC} (oc) "Overcurrent, report, active-low, open-drain output", 6 OUT (power) "Power-switch output", 7 OUT (power) "Power-switch output", 8 OUT (power) "Power-switch output"

## TPS2051BD
designator U?
Single, Current-Limited, Power-Distribution Switch, 1 A Current Limit, -40 to 85 degC, 8-pin SOIC (D), Green (RoHS & no Sb/Br); Manufacturer: Texas Instruments; PartNumber: TPS2051BD; Continuous Current(Max)(A): 0.5; Current Limit(A): 1; Enable: Active High; NEMKO: TRUE; Rating: Catalog; rDS(on) per FET(Typ)(mOhms): 70; Vin(Max)(V): 5.5; Vin(Min)(V): 2.7; DatasheetVersion: SLVS514L; PackageVersion: revM, Jun-2011; PackageReference: D8; PackageDescription: 8-Pin Plastic Small Outline Integrated Circuit, 4.9 x 3.9 mm, Pitch 1.27 mm Pitch; Supplier 1: Digi-Key; Supplier Part Number 1: 296-26911-5-ND; Supplier 2: Newark; Supplier Part Number 2: 10J9737; Supplier 3: Mouser; Supplier Part Number 3: 595-TPS2051BD; Eco-Plan: Green (RoHS & no Sb/Br); Number of Switches: 1; UL Listed: TRUE; Mounting Technology: Surface Mount; Code_JEDEC: MS-012AA; ComponentLink1Description: Datasheet; ComponentLink1URL: http://www.ti.com/general/docs/lit/getliterature.tsp?genericPartNumber=TPS2051B&fileType=pdf
footprint D8_N (SOIC, 8-Leads, Body 4.9x3.9mm, Pitch 1.27mm, IPC Medium Density)
footprint D8_L (SOIC, 8-Leads, Body 4.9x3.9mm, Pitch 1.27mm, IPC High Density)
footprint D8_M (SOIC, 8-Leads, Body 4.9x3.9mm, Pitch 1.27mm, IPC Low Density)
pins: 1 GND (power) "Ground", 2 IN (power) "Input voltage", 3 IN (power) "Input voltage", 4 EN (in) "Enable input, logic low turns on power switch", 5 ~{OC} (oc) "Overcurrent open-drain output, active-low", 6 OUT (power) "Power-switch output", 7 OUT (power) "Power-switch output", 8 OUT (power) "Power-switch output"

## TPS2051BDG4
designator U?
Single, Current-Limited, Power-Distribution Switch, 1 A Current Limit, -40 to 85 degC, 8-pin SOIC (D), Green (RoHS & no Sb/Br); Manufacturer: Texas Instruments; PartNumber: TPS2051BDG4; Continuous Current(Max)(A): 0.5; Current Limit(A): 1; Enable: Active High; NEMKO: TRUE; Rating: Catalog; rDS(on) per FET(Typ)(mOhms): 70; Vin(Max)(V): 5.5; Vin(Min)(V): 2.7; DatasheetVersion: SLVS514L; PackageVersion: revM, Jun-2011; PackageReference: D8; PackageDescription: 8-Pin Plastic Small Outline Integrated Circuit, 4.9 x 3.9 mm, Pitch 1.27 mm Pitch; Supplier 1: Digi-Key; Supplier Part Number 1: TPS2051BDG4-ND; Supplier 2: Newark; Supplier Part Number 2: 73K9583; Supplier 3: Mouser; Supplier Part Number 3: 595-TPS2051BDG4; Eco-Plan: Green (RoHS & no Sb/Br); Number of Switches: 1; UL Listed: TRUE; Mounting Technology: Surface Mount; Code_JEDEC: MS-012AA; ComponentLink1Description: Datasheet; ComponentLink1URL: http://www.ti.com/general/docs/lit/getliterature.tsp?genericPartNumber=TPS2051B&fileType=pdf
footprint D8_N (SOIC, 8-Leads, Body 4.9x3.9mm, Pitch 1.27mm, IPC Medium Density)
footprint D8_L (SOIC, 8-Leads, Body 4.9x3.9mm, Pitch 1.27mm, IPC High Density)
footprint D8_M (SOIC, 8-Leads, Body 4.9x3.9mm, Pitch 1.27mm, IPC Low Density)
pins: 1 GND (power) "Ground", 2 IN (power) "Input voltage", 3 IN (power) "Input voltage", 4 EN (in) "Enable input, logic low turns on power switch", 5 ~{OC} (oc) "Overcurrent open-drain output, active-low", 6 OUT (power) "Power-switch output", 7 OUT (power) "Power-switch output", 8 OUT (power) "Power-switch output"

## TPS2051BDR
designator U?
Single, Current-Limited, Power-Distribution Switch, 1 A Current Limit, -40 to 85 degC, 8-pin SOIC (D), Green (RoHS & no Sb/Br); Manufacturer: Texas Instruments; PartNumber: TPS2051BDR; Continuous Current(Max)(A): 0.5; Current Limit(A): 1; Enable: Active High; NEMKO: TRUE; Rating: Catalog; rDS(on) per FET(Typ)(mOhms): 70; Vin(Max)(V): 5.5; Vin(Min)(V): 2.7; DatasheetVersion: SLVS514L; PackageVersion: revM, Jun-2011; PackageReference: D8; PackageDescription: 8-Pin Plastic Small Outline Integrated Circuit, 4.9 x 3.9 mm, Pitch 1.27 mm Pitch; Supplier 1: Digi-Key; Supplier Part Number 1: 296-16987-2-ND; Supplier 2: Digi-Key; Supplier Part Number 2: 296-16987-1-ND; Supplier 3: Digi-Key; Supplier Part Number 3: 296-16987-6-ND; Supplier 4: Newark; Supplier Part Number 4: 10J9738; Supplier 5: Mouser; Supplier Part Number 5: 595-TPS2051BDR; Eco-Plan: Green (RoHS & no Sb/Br); Number of Switches: 1; UL Listed: TRUE; Mounting Technology: Surface Mount; Code_JEDEC: MS-012AA; ComponentLink1Description: Datasheet; ComponentLink1URL: http://www.ti.com/general/docs/lit/getliterature.tsp?genericPartNumber=TPS2051B&fileType=pdf
footprint D8_N (SOIC, 8-Leads, Body 4.9x3.9mm, Pitch 1.27mm, IPC Medium Density)
footprint D8_L (SOIC, 8-Leads, Body 4.9x3.9mm, Pitch 1.27mm, IPC High Density)
footprint D8_M (SOIC, 8-Leads, Body 4.9x3.9mm, Pitch 1.27mm, IPC Low Density)
pins: 1 GND (power) "Ground", 2 IN (power) "Input voltage", 3 IN (power) "Input voltage", 4 EN (in) "Enable input, logic low turns on power switch", 5 ~{OC} (oc) "Overcurrent open-drain output, active-low", 6 OUT (power) "Power-switch output", 7 OUT (power) "Power-switch output", 8 OUT (power) "Power-switch output"

## TPS2051BDRG4
designator U?
Single, Current-Limited, Power-Distribution Switch, 1 A Current Limit, -40 to 85 degC, 8-pin SOIC (D), Green (RoHS & no Sb/Br); Manufacturer: Texas Instruments; PartNumber: TPS2051BDRG4; Continuous Current(Max)(A): 0.5; Current Limit(A): 1; Enable: Active High; NEMKO: TRUE; Rating: Catalog; rDS(on) per FET(Typ)(mOhms): 70; Vin(Max)(V): 5.5; Vin(Min)(V): 2.7; DatasheetVersion: SLVS514L; PackageVersion: revM, Jun-2011; PackageReference: D8; PackageDescription: 8-Pin Plastic Small Outline Integrated Circuit, 4.9 x 3.9 mm, Pitch 1.27 mm Pitch; Supplier 1: Digi-Key; Supplier Part Number 1: TPS2051BDRG4-ND; Supplier 2: Newark; Supplier Part Number 2: 33K7522; Supplier 3: Mouser; Supplier Part Number 3: 595-TPS2051BDRG4; Eco-Plan: Green (RoHS & no Sb/Br); Number of Switches: 1; UL Listed: TRUE; Mounting Technology: Surface Mount; Code_JEDEC: MS-012AA; ComponentLink1Description: Datasheet; ComponentLink1URL: http://www.ti.com/general/docs/lit/getliterature.tsp?genericPartNumber=TPS2051B&fileType=pdf
footprint D8_N (SOIC, 8-Leads, Body 4.9x3.9mm, Pitch 1.27mm, IPC Medium Density)
footprint D8_L (SOIC, 8-Leads, Body 4.9x3.9mm, Pitch 1.27mm, IPC High Density)
footprint D8_M (SOIC, 8-Leads, Body 4.9x3.9mm, Pitch 1.27mm, IPC Low Density)
pins: 1 GND (power) "Ground", 2 IN (power) "Input voltage", 3 IN (power) "Input voltage", 4 EN (in) "Enable input, logic low turns on power switch", 5 ~{OC} (oc) "Overcurrent open-drain output, active-low", 6 OUT (power) "Power-switch output", 7 OUT (power) "Power-switch output", 8 OUT (power) "Power-switch output"